# EAGLE library part SD-MINI-CARDEDGE (library Mechanical)
Standard footprint geometry for SD-MINI card edge.
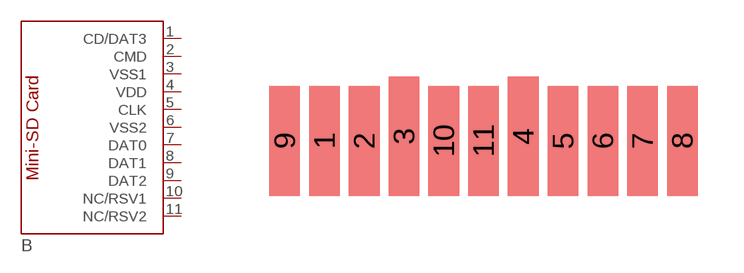
[diagram p77: symbol with the pads of SD-MINI-CARDEDGE; footprint SD-MINI-CARDEDGE]

Designator prefix B

## SD-MINI-CARDEDGE  [SD-MINI-CARDEDGE]
1  CD/DAT3
2  CMD
3  VSS1
4  VDD
5  CLK
6  VSS2
7  DAT0
8  DAT1
9  DAT2
10  NC/RSV1
11  NC/RSV2

## Footprint SD-MINI-CARDEDGE (pad centres in mm)
Mini-SD Card connector edge pattern
smd 1 x 3.6: 1 -6,-4.5; 2 -4.7,-4.5; 5 1.8,-4.5; 6 3.1,-4.5; 7 4.4,-4.5; 8 5.7,-4.5; 9 -7.3,-4.5; 10 -2.1,-4.5; 11 -0.8,-4.5
smd 1 x 3.9: 3 -3.4,-4.35; 4 0.5,-4.35